# Altium integrated library WQFN-24.IntLib: 1 symbol
Pins are listed as number, name and electrical type; pins without a type are passive.

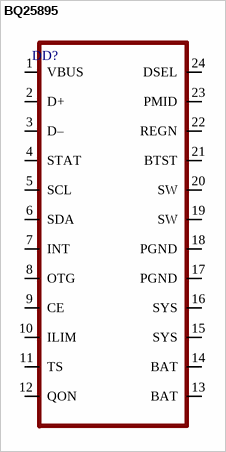
[diagram p0: symbol BQ25895]

## BQ25895
designator DD?
footprint WQFN-24
pins: 1 VBUS, 2 D+, 3 D–, 4 STAT, 5 SCL, 6 SDA, 7 INT, 8 OTG, 9 CE, 10 ILIM, 11 TS, 12 QON, 13 BAT, 14 BAT, 15 SYS, 16 SYS, 17 PGND, 18 PGND, 19 SW, 20 SW, 21 BTST, 22 REGN, 23 PMID, 24 DSEL